# Altium footprint library cricket-node-hw__B.PcbLib: 52 footprints (part 3 of 4)
Each footprint in its own frame and in the unit in brackets; x right, y up, seen from the top. Pads: shape width x height; smd on the part's side, far side on the other; paste and mask are expansions set on the pad; w line width, h text height; cw(c..) or ccw(c..) is an arc to the next point about the centre after c.
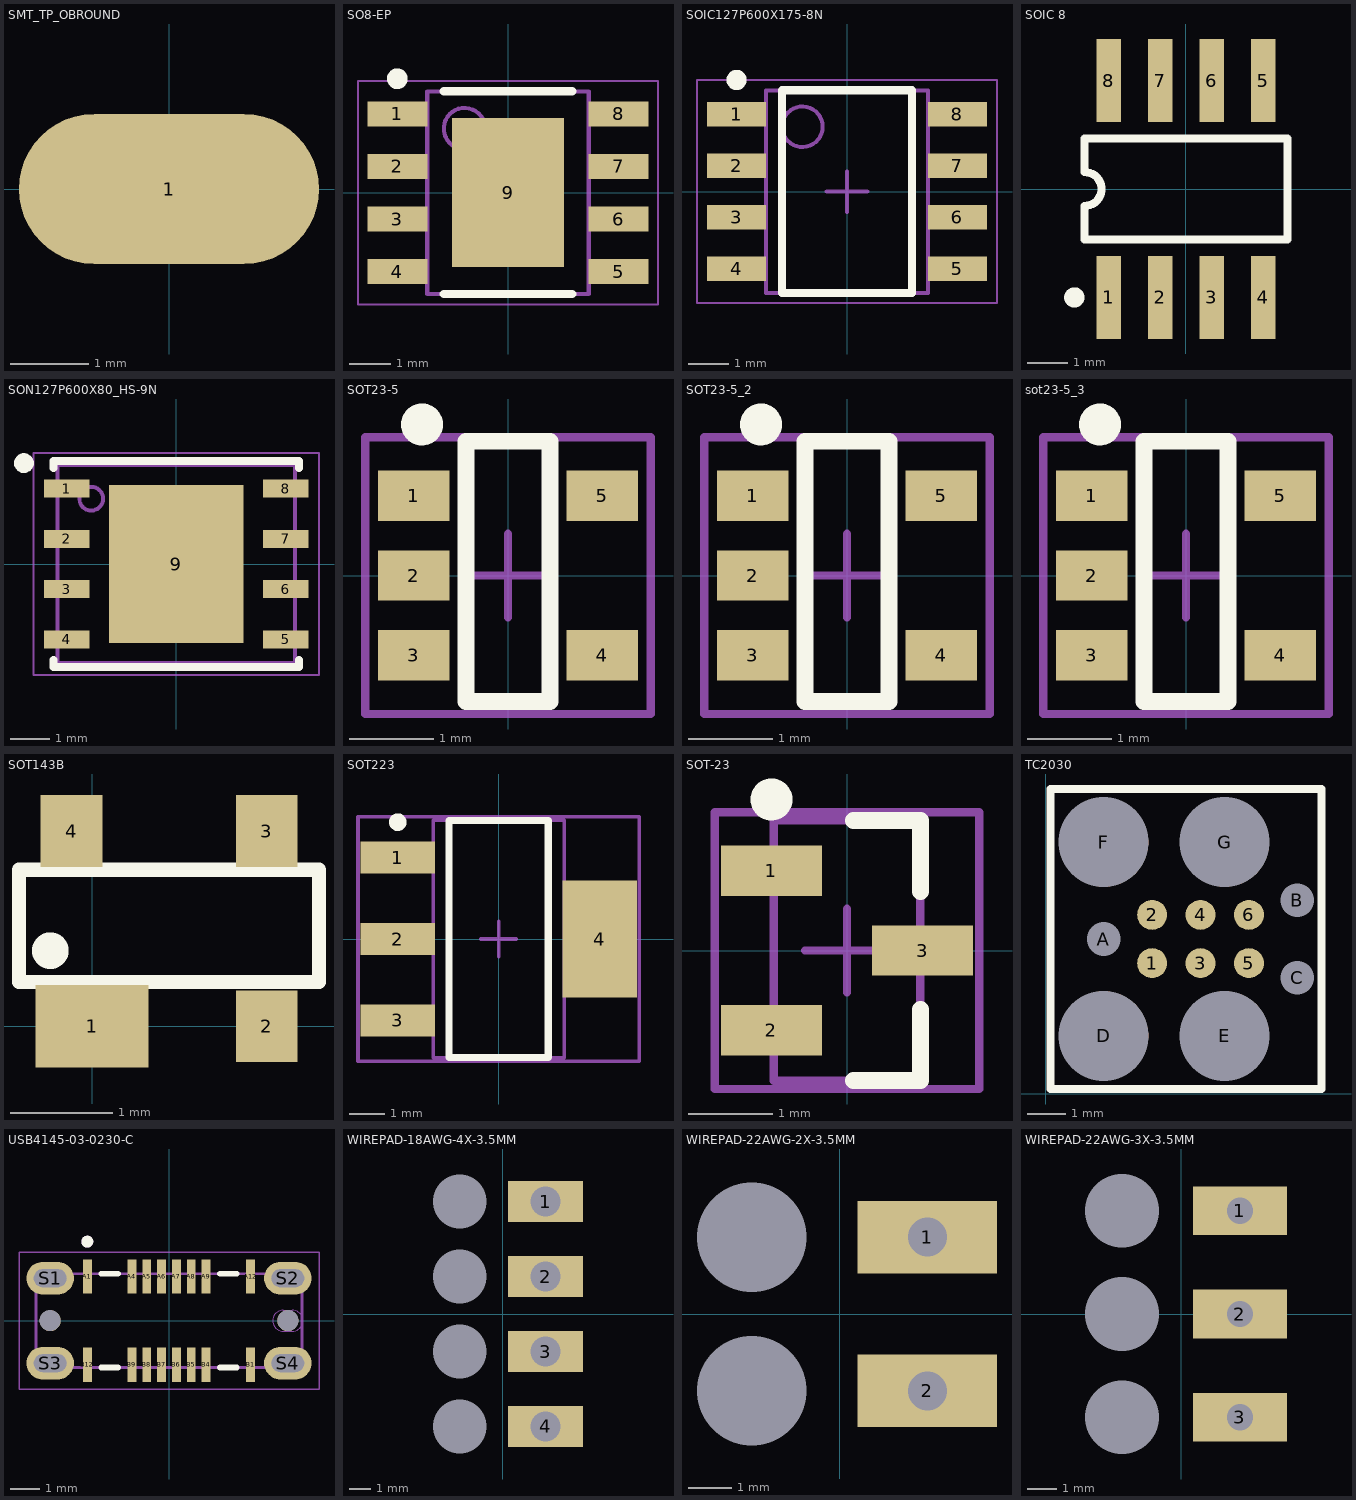
[diagram p2: the footprints below, top view; thin cyan lines are the x and y axes]

## SMT_TP_OBROUND [mm] "SMT_TP_OBROUND"
height 1.6
pads (1):
  oval 3.81x1.905 smd paste-0.254: 1(0,0)

## SO8-EP [mm] "SOIC, 8-Leads, Body 4.80x3.80mm, Pitch 1.27mm, Thermal Pad 3.60x2.70mm, IPC Medium Density"
height 1.65
pads (9):
  rect 1.45x0.6 smd mask+0.05: 1(-2.675,1.905) 2(-2.675,0.635) 3(-2.675,-0.635) 4(-2.675,-1.905) 5(2.675,-1.905) 6(2.675,-0.635) 7(2.675,0.635) 8(2.675,1.905)
  rect 2.7x3.6 smd mask+0.05: 9(0,0)
Top Overlay:
  circle w0.25: c-2.675,2.755 r0.125
  lines w0.2: -1.55,-2.45 1.55,-2.45 ; -1.55,2.45 1.55,2.45
Top Solder:
  region: -1.35,1.8 -1.35,-1.8 1.35,-1.8 1.35,1.8
  region: 1.95,1.605 1.95,2.205 3.4,2.205 3.4,1.605
  region: 1.95,0.335 1.95,0.935 3.4,0.935 3.4,0.335
  region: 1.95,-0.335 1.95,-0.935 3.4,-0.935 3.4,-0.335
  region: 1.95,-1.605 1.95,-2.205 3.4,-2.205 3.4,-1.605
  region: -3.4,-1.605 -3.4,-2.205 -1.95,-2.205 -1.95,-1.605
  region: -3.4,-0.335 -3.4,-0.935 -1.95,-0.935 -1.95,-0.335
  region: -3.4,0.335 -3.4,0.935 -1.95,0.935 -1.95,0.335
  region: -3.4,1.605 -3.4,2.205 -1.95,2.205 -1.95,1.605
Top Courtyard:
  lines w0.05: -3.625,-2.7 3.625,-2.7 3.625,2.7 -3.625,2.7 -3.625,-2.7
  lines w0.1: -0.5,0 0.5,0 ; 0,-0.5 0,0.5
Top Assembly:
  circle w0.1: c-1.05,1.55 r0.5
  lines w0.1: -1.95,-2.45 1.95,-2.45 1.95,2.45 -1.95,2.45 -1.95,-2.45
3D body "SO-8EP.STP": height 1.55, standoff 0, extent -3.001,-2.451 3.001,2.451

## SOIC127P600X175-8N [mm] "SOIC, 8-Leads, Body 4.90x3.90mm, Pitch 1.27mm, IPC Medium Density"
height 1.75
pads (8):
  rect 1.45x0.6 smd mask+0.05: 1(-2.725,1.905) 2(-2.725,0.635) 3(-2.725,-0.635) 4(-2.725,-1.905) 5(2.725,-1.905) 6(2.725,-0.635) 7(2.725,0.635) 8(2.725,1.905)
Top Overlay:
  circle w0.25: c-2.725,2.755 r0.125
  lines w0.2: -1.6,-2.5 1.6,-2.5 1.6,2.5 -1.6,2.5 -1.6,-2.5
Top Solder:
  region: 2,-1.605 2,-2.205 3.45,-2.205 3.45,-1.605
  region: 2,-0.335 2,-0.935 3.45,-0.935 3.45,-0.335
  region: 2,0.335 2,0.935 3.45,0.935 3.45,0.335
  region: 2,1.605 2,2.205 3.45,2.205 3.45,1.605
  region: -3.45,-1.605 -3.45,-2.205 -2,-2.205 -2,-1.605
  region: -3.45,-0.335 -3.45,-0.935 -2,-0.935 -2,-0.335
  region: -3.45,0.335 -3.45,0.935 -2,0.935 -2,0.335
  region: -3.45,1.605 -3.45,2.205 -2,2.205 -2,1.605
Top Courtyard:
  lines w0.05: -3.7,-2.75 3.7,-2.75 3.7,2.75 -3.7,2.75 -3.7,-2.75
  lines w0.1: -0.5,0 0.5,0 ; 0,-0.5 0,0.5
Top Assembly:
  circle w0.1: c-1.1,1.6 r0.5
  lines w0.1: -2,-2.5 2,-2.5 2,2.5 -2,2.5 -2,-2.5
3D body "SOIC127P600X175-8N.step": height 1.75, standoff 0, extent -3,-2.5 3,2.5

## SOIC 8 [mm]
height 1.6
pads (8):
  rect 0.6x2.05 smd: 1(-1.905,-2.675) 2(-0.635,-2.675) 3(0.635,-2.675) 4(1.905,-2.675) 5(1.905,2.675) 6(0.635,2.675) 7(-0.635,2.675) 8(-1.905,2.675)
Top Overlay:
  circle w0.25: c-2.755,-2.675 r0.125
  lines w0.2: -2.5,-0.417 -2.5,-1.25 2.5,-1.25 2.5,1.25 -2.5,1.25 -2.5,0.417 ; -2.5,-0.417 ccw(c-2.5,0) -2.5,0.417
3D body "SW3dPS-SOIC8.step": height 1.88, standoff -0.03, extent -2.489,-3.195 2.515,3.144

## SON127P600X80_HS-9N [mm] "SON, 8-Leads, Body 5.00x6.00mm, Pitch 1.27mm, Thermal Pad 4.00x3.40mm, IPC Medium Density"
height 0.8
pads (9):
  rect 1.15x0.45 smd: 1(-2.77,1.905) 2(-2.77,0.635) 3(-2.77,-0.635) 4(-2.77,-1.905) 5(2.77,-1.905) 6(2.77,-0.635) 7(2.77,0.635) 8(2.77,1.905)
  rect 3.4x4 smd paste-1.7: 9(0,0)
Top Overlay:
  circle w0.25: c-3.85,2.55 r0.125
  lines w0.2: -3.1,-2.43 -3.1,-2.6 3.1,-2.6 3.1,-2.43 ; -3.1,2.43 -3.1,2.6 3.1,2.6 3.1,2.43
Top Paste:
  rectangle: 0.668,-1.896 1.598,-0.766
  rectangle: 0.665,-0.568 1.595,0.562
  rectangle: 0.665,0.768 1.595,1.898
  rectangle: -0.465,-1.898 0.465,-0.768
  rectangle: -0.465,-0.562 0.465,0.568
  rectangle: -0.465,0.768 0.465,1.898
  rectangle: -1.595,-1.898 -0.665,-0.768
  rectangle: -1.595,-0.562 -0.665,0.568
  rectangle: -1.595,0.768 -0.665,1.898
Mechanical 7:
  circle w0.1: c-2.15,1.65 r0.3
  lines w0.1: -3,-2.5 3,-2.5 3,2.5 -3,2.5 -3,-2.5
  text ".Designator" at -0.5,-0.175 h0.38
Mechanical 15:
  lines w0.05: -3.605,-2.8 3.605,-2.8 3.605,2.8 -3.605,2.8 -3.605,-2.8
  lines w0.1: -0.5,0 0.5,0 ; 0,-0.5 0,0.5
3D body "SON127P600X80_HS-9N.step": height 0.8, standoff 0, extent -3.051,-2.55 3.051,2.55

## SOT23-5 [mm] "SOT23, 5-Leads, Body 3.1x2.6mm (max), Pitch 0.95mm, IPC High Density"
height 1.45
pads (5):
  rect 0.85x0.6 smd: 1(-1.125,0.95) 2(-1.125,0) 3(-1.125,-0.95) 4(1.125,-0.95) 5(1.125,0.95)
Top Overlay:
  circle w0.25: c-1.025,1.8 r0.125
  lines w0.2: -0.5,-1.5 -0.5,1.6 0.5,1.6 0.5,-1.5 -0.5,-1.5
Mechanical 15:
  lines w0.1: -0.5,0 0.5,0 ; 0,-0.5 0,0.5 ; -1.7,-1.65 1.7,-1.65 1.7,1.65 -1.7,1.65 -1.7,-1.65
3D body "ct-sot-23-5.stp": height 1.15, standoff -0.03, extent -1.379,-1.45 1.321,1.45

## SOT23-5_2 [mm]
pads (5):
  rect 0.85x0.6 smd: 1(-1.125,0.95) 2(-1.125,0) 3(-1.125,-0.95) 4(1.125,-0.95) 5(1.125,0.95)
Top Overlay:
  circle w0.25: c-1.025,1.8 r0.125
  lines w0.2: -0.5,-1.5 -0.5,1.6 0.5,1.6 0.5,-1.5 -0.5,-1.5
Mechanical 15:
  lines w0.1: -0.5,0 0.5,0 ; 0,-0.5 0,0.5 ; -1.7,-1.65 1.7,-1.65 1.7,1.65 -1.7,1.65 -1.7,-1.65
3D body "ct-sot-23-5.stp": height 1.15, standoff -0.03, extent -1.379,-1.45 1.321,1.45

## sot23-5_3 [mm]
pads (5):
  rect 0.85x0.6 smd: 1(-1.125,0.95) 2(-1.125,0) 3(-1.125,-0.95) 4(1.125,-0.95) 5(1.125,0.95)
Top Overlay:
  circle w0.25: c-1.025,1.8 r0.125
  lines w0.2: -0.5,-1.5 0.5,-1.5 0.5,1.6 -0.5,1.6 -0.5,-1.5
Mechanical 15:
  lines w0.1: -0.5,0 0.5,0 ; 0,-0.5 0,0.5 ; -1.7,-1.65 -1.7,1.65 1.7,1.65 1.7,-1.65 -1.7,-1.65
3D body "ct-sot-23-5.stp": height 1.15, standoff -0.03, extent -1.379,-1.45 1.321,1.45

## SOT143B [mm] "SOT143B"
height 1.1
pads (4):
  rect 1.1x0.8 smd: 1(0,0)
  rect 0.6x0.7 smd: 2(1.702,0) 3(1.702,1.9) 4(-0.2,1.9)
Top Overlay:
  circle w0.254: c-0.406,0.737 r0.051
  lines w0.14: -0.711,0.432 -0.711,1.524 2.21,1.524 2.21,0.432 -0.711,0.432
3D body "User Library-sot143.step": height 1, standoff 0, extent -0.698,-0.27 2.222,2.15

## SOT223 [mm] "SOT223, 4-Leads, Body 6.7x7.3mm (max), Pitch 2.30mm, IPC High Density"
height 1.8
pads (4):
  rect 2.1x0.9 smd: 1(-2.85,2.3) 2(-2.85,0) 3(-2.85,-2.3)
  rect 2.1x3.3 smd: 4(2.85,0)
Top Overlay:
  circle w0.25: c-2.85,3.3 r0.125
  lines w0.2: -1.4,-3.35 -1.4,3.35 1.4,3.35 1.4,-3.35 -1.4,-3.35
Mechanical 13:
  lines w0.1: -1.85,-3.35 -1.85,3.35 1.85,3.35 1.85,-3.35 -1.85,-3.35
Mechanical 15:
  lines w0.1: -0.5,0 0.5,0 ; 0,-0.5 0,0.5 ; -3.975,-3.45 -3.975,3.45 3.975,3.45 3.975,-3.45 -3.975,-3.45
3D body "sot223.stp": height 1.75, standoff -0.05, extent -3.541,-3.347 3.759,3.353

## SOT-23 [mm] "SOT-23"
height 1.6
pads (3):
  rect 1.2x0.6 smd: 1(-0.9,0.95) 2(-0.9,-0.95) 3(0.9,0)
Top Overlay:
  circle w0.25: c-0.9,1.8 r0.125
  lines w0.2: 0.075,-1.55 0.875,-1.55 0.875,-0.7 ; 0.075,1.55 0.875,1.55 0.875,0.7
Mechanical 13:
  lines w0.1: -0.875,-1.55 0.875,-1.55 0.875,1.55 -0.875,1.55 -0.875,-1.55
Mechanical 15:
  lines w0.1: -0.5,0 0.5,0 ; 0,-0.5 0,0.5 ; -1.575,-1.65 1.575,-1.65 1.575,1.65 -1.575,1.65 -1.575,-1.65
3D body "SW3DPS-SOT-23-DEFAULT.STEP": height 1.07, standoff -0.03, extent -1.27,-1.5 1.23,1.5

## TC2030 [mil] "TC2030-MCP"
height 62.99
pads (13):
  round 31 smd paste-40: 1(110,135) 2(110,185) 3(160,135) 4(160,185) 5(210,135) 6(210,185)
  round 34 hole 35 unplated: A(60,160) B(260,200) C(260,120)
  round 92 hole 93 unplated: D(60,60) E(185,60) F(60,260) G(185,260)
Top Overlay:
  lines w7.87: 5,5 285,5 285,315 5,315 5,5
Mechanical 1:
  circle w10: c60,260 r36.06

## USB4145-03-0230-C [mm]
height 7.66
pads (22):
  rect 0.3x1.15 smd: A1(-2.75,1.485) A4(-1.25,1.485) A5(-0.75,1.485) A6(-0.25,1.485) A7(0.25,1.485) A8(0.75,1.485) A9(1.25,1.485) A12(2.75,1.485) B1(2.75,-1.485) B4(1.25,-1.485) B5(0.75,-1.485) B6(0.25,-1.485) B7(-0.25,-1.485) B8(-0.75,-1.485) B9(-1.25,-1.485) B12(-2.75,-1.485)
  oval 1.6x1.1 hole 0.6 slot 1.1 at 0 deg: S1(-4,1.43) S2(4,1.43) S3(-4,-1.43) S4(4,-1.43)
  round 0.71 hole 0.71 unplated: ""(-4,0) ""(4,0)
Top Overlay:
  circle w0.2: c-2.75,2.66 r0.1
  lines w0.2: -2.28,-1.58 -1.72,-1.58 ; -2.28,1.58 -1.72,1.58 ; 1.72,-1.58 2.28,-1.58 ; 1.72,1.58 2.28,1.58
Mechanical 1:
  lines w0: 3.495,0 cw(c3.85,0) 3.85,0.355 4.15,0.355 cw(c4.15,0) 4.505,0 cw(c4.15,0) 4.15,-0.355 3.85,-0.355 cw(c3.85,0) 3.495,0
Mechanical 13:
  circle w0.2: c-2.75,2.66 r0.1
  lines w0.1: -4.47,-1.58 4.47,-1.58 4.47,1.58 -4.47,1.58 -4.47,-1.58
Mechanical 15:
  lines w0.05: -5.05,-2.31 5.05,-2.31 5.05,2.31 -5.05,2.31 -5.05,-2.31
3D body "USB4145-03-0070-C.stp": height 7.46, standoff -0.7, extent -4.475,-1.856 4.47,1.834

## WIREPAD-18AWG-4X-3.5MM [mm]
pads (8):
  rect 3.5x1.905 hole 1.397: 1(2,5.25) 2(2,1.75) 3(2,-1.75) 4(2,-5.25)
  rect 0x0 hole 2.5 unplated: M2(-2,-5.25) M2(-2,-1.75) M2(-2,1.75) M2(-2,5.25)

## WIREPAD-22AWG-2X-3.5MM [mm]
pads (4):
  rect 3.175x1.651 hole 0.889: 1(2,1.75) 2(2,-1.75)
  rect 0x0 hole 2.5 unplated: q(-2,-1.75) q(-2,1.75)

## WIREPAD-22AWG-3X-3.5MM [mm]
pads (6):
  rect 3.175x1.651 hole 0.889: 1(2,3.5) 2(2,0) 3(2,-3.5)
  rect 0x0 hole 2.5 unplated: q(-2,-3.5) q(-2,0) q(-2,3.5)